# EAGLE library part S4_RELAY (library Relay)
Relay-S4, 4 Schliesser
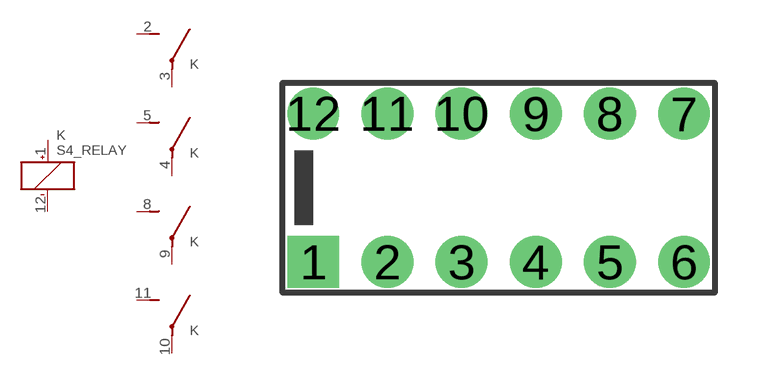
[diagram p0: symbol with the pads of RELAY_S4; footprint RELAY_S4]

Designator prefix K; gates S4_COIL=S4_SPULE A=S4_SCHALTER B=S4_SCHALTER C=S4_SCHALTER D=S4_SCHALTER

## S4_RELAY  [RELAY_S4]
1  S4_COIL:+  pas
2  A:S  pas
3  A:P  pas
4  B:P  pas
5  B:S  pas
8  C:S  pas
9  C:P  pas
10  D:P  pas
11  D:S  pas
12  S4_COIL:-  pas

## Footprint RELAY_S4 (pad centres in mm)
drill 0.8 pad 1.778 square: 1 -1.27,-2.54
drill 0.8 pad 1.778: 2 1.27,-2.54; 3 3.81,-2.54; 4 6.35,-2.54; 5 8.89,-2.54; 6 11.43,-2.54; 7 11.43,2.54; 8 8.89,2.54; 9 6.35,2.54; 10 3.81,2.54; 11 1.27,2.54; 12 -1.27,2.54